# Altium schematic symbol library Schematic.SCHLIB: 75 symbols
Pins are listed as number, name and electrical type; pins without a type are passive.

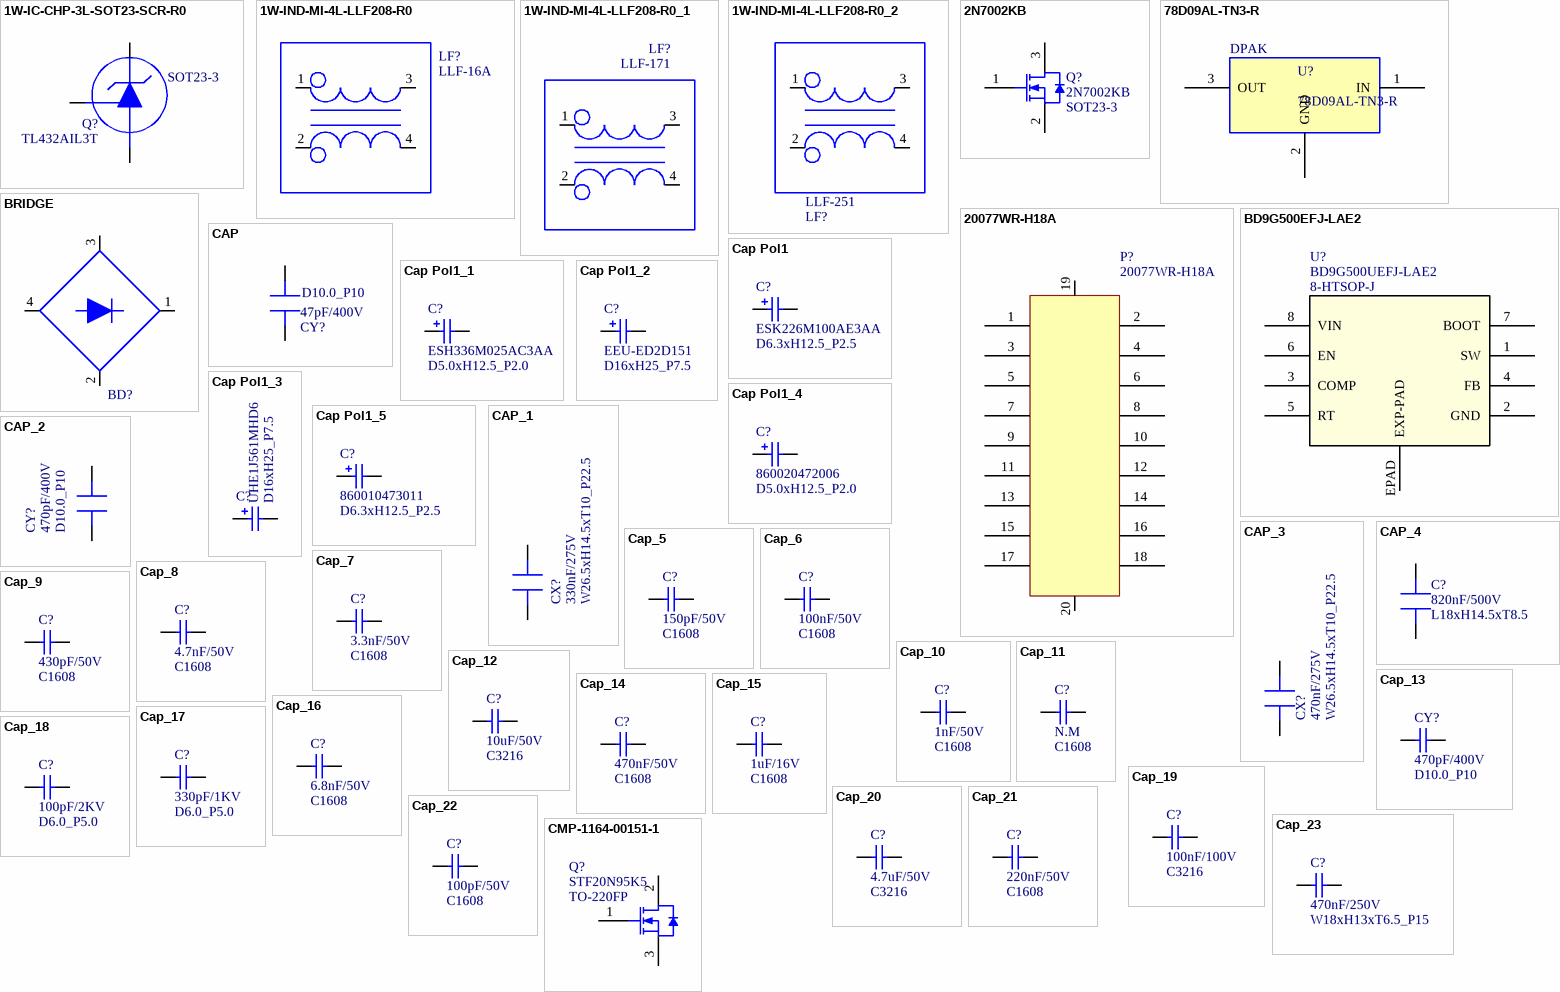
[diagram p0: symbols 1W-IC-CHP-3L-SOT23-SCR-R0 to CMP-1164-00151-1]

## 1W-IC-CHP-3L-SOT23-SCR-R0
designator Q?, comment TL432AIL3T  Package/Case: SOT23-3
IC VREF SHUNT ADJ 1% SOT23-3; Mount Type: SMD
footprint SOT-23_TR
pins: 1 R, 2 K, 3 A

## 1W-IND-MI-4L-LLF208-R0
designator LF?, comment LLF-16A
LINE FILTER; Package/Case: LLF-16A; Mount Type: DIP
footprint 1W-IND-MI-4L-LLF16-2TFF00159A
pins: 1, 2, 3, 4

## 1W-IND-MI-4L-LLF208-R0_1
designator LF?, comment LLF-171
LINE FILTER; Mount Type: DIP; Package/Case: LLF-171
footprint 1W-IND-MI-4L-LLF171-2TFF00188A
pins: 1, 2, 3, 4

## 1W-IND-MI-4L-LLF208-R0_2
designator LF?, comment LLF-251
LINE FILTER; Mount Type: DIP; Package/Case: LLF-251
footprint 1W-IND-MI-4L-LLF171-2TFF00188A
pins: 1, 2, 3, 4

## 2N7002KB
designator Q?  Package/Case: SOT23-3
N-CH MOSFET; Mounting Type: SMD
pins: 1 G, 2 S, 3 D

## 78D09AL-TN3-R
designator U?  Package/Case: DPAK
3-TERMINALS 1A POSITIVE VOLTAGE REGULATOR; Mounting Type: SMD
pins: 1 IN, 2 GND, 3 OUT

## 20077WR-H18A
designator P?
Wafer 18P; Package/Case: 20077WR-H18A; Mount Type: DIP
footprint 1W-CON-MI-18L-20077WR-2P
pins: 1, 2, 3, 4, 5, 6, 7, 8, 9, 10, 11, 12, 13, 14, 15, 16, 17, 18, 19, 20

## BD9G500EFJ-LAE2
designator U?, comment BD9G500UEFJ-LAE2  Package/Case: 8-HTSOP-J
7 V to 76 V Input, 5 A Integrated High–Side MOSFET, Single Buck DC/DC Converter; Mount Type: SMD
footprint SOIC8_BD9G500EFJ-LAE2_ROM
pins: 1 SW, 2 GND (power), 3 COMP, 4 FB, 5 RT, 6 EN, 7 BOOT, 8 VIN, EPAD EXP-PAD

## BRIDGE
designator BD?, comment TS6KL60  (value not drawn)
BRIDGE DIODE; Mount Type: DIP
footprint 2W-DIO-MI-4L-4_6X25X15-7_5P-BD
pins: 1, 2, 3, 4

## CAP
designator CY?, comment 47pF/400V  Package/Case: D10.0_P10
Y Capacitor; Mount Type: DIP
footprint CAP-RA-D12T3_6-P10-R0
pins: 1, 2

## Cap Pol1
designator C?, comment ESK226M100AE3AA  Package/Case: D6.3xH12.5_P2.5
Electrolytic Capacitor 22uF/100V; Mount Type: DIP
simulation model CAP (Capacitor)
signal-integrity model Cap Pol
footprint CAP-RA-D8H5-P2_5-R0
pins: 1, 2
1 alternate drawing of the same symbol

## Cap Pol1_1
designator C?, comment ESH336M025AC3AA  Package/Case: D5.0xH12.5_P2.0
Electrolytic Capacitor 33uF/25V; Mount Type: DIP
simulation model CAP (Capacitor)
signal-integrity model Cap Pol
footprint CAP-RA-D5.0H12_5-P2-R0CA
pins: 1, 2
1 alternate drawing of the same symbol

## Cap Pol1_2
designator C?, comment EEU-ED2D151  Package/Case: D16xH25_P7.5
Electrolytic Capacitor 150uF/200V; Mount Type: DIP
simulation model CAP (Capacitor)
signal-integrity model Cap Pol
footprint 1W-CAP-MI-2L-16DX25-7_5P-EL-F-R1212
pins: 1, 2
1 alternate drawing of the same symbol

## Cap Pol1_3
designator C?, comment UHE1J561MHD6  Package/Case: D16xH25_P7.5
Electrolytic Capacitor 560uF/63V; Mount Type: DIP
simulation model CAP (Capacitor)
signal-integrity model Cap Pol
footprint 1W-CAP-MI-2L-16DX36-7_5P-EL-F-R1212
footprint 1W-CAP-MI-2L-16DX25-7_5P-EL-F-R1212
pins: 1, 2
1 alternate drawing of the same symbol

## Cap Pol1_4
designator C?, comment 860020472006  Package/Case: D5.0xH12.5_P2.0
Electrolytic Capacitor 47uF/25V; Mount Type: DIP
simulation model CAP (Capacitor)
signal-integrity model Cap Pol
footprint CAP-RA-D5.0H12_5-P2-R0CA
pins: 1, 2
1 alternate drawing of the same symbol

## Cap Pol1_5
designator C?, comment 860010473011  Package/Case: D6.3xH12.5_P2.5
Electrolytic Capacitor 220uF/25V; Mount Type: DIP
simulation model CAP (Capacitor)
signal-integrity model Cap Pol
footprint CAP-RA-D8H5-P2_5-R0
pins: 1, 2
1 alternate drawing of the same symbol

## CAP_1
designator CX?, comment 330nF/275V  Package/Case: W26.5xH14.5xT10_P22.5
X Capacitor; Mount Type: DIP
footprint 1W-CAP-MI-2L-10X26X17-22.5P-FILM-R0
footprint CAP-MI-X26_5Y10-P22_5-R0
pins: 1, 2

## CAP_2
designator CY?, comment 470pF/400V  Package/Case: D10.0_P10
Y Capacitor; Mount Type: DIP
footprint CAP-RA-D12T3_6-P10-R0
pins: 1, 2

## CAP_3
designator CX?, comment 470nF/275V  Package/Case: W26.5xH14.5xT10_P22.5
X Capacitor; Mount Type: DIP
footprint 1W-CAP-MI-2L-10X26X17-22.5P-FILM-R0
footprint CAP-MI-X26_5Y10-P22_5-R0
pins: 1, 2

## CAP_4
designator C?, comment 820nF/500V  Package/Case: L18xH14.5xT8.5
Film Capacitor; Mount Type: DIP
footprint 1W-CAP-MI-2L-8_5X18X14_5-15P-FILM
pins: 1, 2

## Cap_5
designator C?, comment 150pF/50V  Package/Case: C1608
Chip MLCC; Mount Type: SMD
simulation model CAP (Capacitor)
signal-integrity model Cap
footprint CAP-CHP-1608-R0
pins: 1, 2

## Cap_6
designator C?, comment 100nF/50V  Package/Case: C1608
Chip MLCC; Mount Type: SMD
simulation model CAP (Capacitor)
signal-integrity model Cap
footprint CAP-CHP-1608-R0
pins: 1, 2

## Cap_7
designator C?, comment 3.3nF/50V  Package/Case: C1608
Chip MLCC; Mount Type: SMD
simulation model CAP (Capacitor)
signal-integrity model Cap
footprint CAP-CHP-1608-R0
pins: 1, 2

## Cap_8
designator C?, comment 4.7nF/50V  Package/Case: C1608
Chip MLCC; Mount Type: SMD
simulation model CAP (Capacitor)
signal-integrity model Cap
footprint CAP-CHP-1608-R0
pins: 1, 2

## Cap_9
designator C?, comment 430pF/50V  Package/Case: C1608
Chip MLCC; Mount Type: SMD
simulation model CAP (Capacitor)
signal-integrity model Cap
footprint CAP-CHP-1608-R0
pins: 1, 2

## Cap_10
designator C?, comment 1nF/50V  Package/Case: C1608
Chip MLCC; Mount Type: SMD
simulation model CAP (Capacitor)
signal-integrity model Cap
footprint CAP-CHP-1608-R0
pins: 1, 2

## Cap_11
designator C?, comment N.M  Package/Case: C1608
Chip MLCC; Mount Type: SMD
simulation model CAP (Capacitor)
signal-integrity model Cap
footprint CAP-CHP-1608-R0
pins: 1, 2

## Cap_12
designator C?, comment 10uF/50V  Package/Case: C3216
Chip MLCC; Mount Type: SMD
simulation model CAP (Capacitor)
signal-integrity model Cap
footprint CAP-CHP-3216-R0
pins: 1, 2

## Cap_13
designator CY?, comment 470pF/400V  Package/Case: D10.0_P10
Y Capacitor; Mount Type: DIP
simulation model CAP (Capacitor)
signal-integrity model Cap
footprint CAP-RA-D12T3_6-P10-R0
pins: 1, 2

## Cap_14
designator C?, comment 470nF/50V  Package/Case: C1608
Chip MLCC; Mount Type: SMD
simulation model CAP (Capacitor)
signal-integrity model Cap
footprint CAP-CHP-1608-R0
pins: 1, 2

## Cap_15
designator C?, comment 1uF/16V  Package/Case: C1608
Chip MLCC; Mount Type: SMD
simulation model CAP (Capacitor)
signal-integrity model Cap
footprint CAP-CHP-1608-R0
pins: 1, 2

## Cap_16
designator C?, comment 6.8nF/50V  Package/Case: C1608
Chip MLCC; Mount Type: SMD
simulation model CAP (Capacitor)
signal-integrity model Cap
footprint CAP-CHP-1608-R0
pins: 1, 2

## Cap_17
designator C?, comment 330pF/1KV  Package/Case: D6.0_P5.0
Ceramic Capacitor; Mount Type: DIP
simulation model CAP (Capacitor)
signal-integrity model Cap
footprint CAP-RA-D6_5T2-P5-R0
pins: 1, 2

## Cap_18
designator C?, comment 100pF/2KV  Package/Case: D6.0_P5.0
Ceramic Capacitor; Mount Type: DIP
simulation model CAP (Capacitor)
signal-integrity model Cap
footprint CAP-RA-D6_5T2-P5-R0
pins: 1, 2

## Cap_19
designator C?, comment 100nF/100V  Package/Case: C3216
Chip MLCC; Mount Type: SMD
simulation model CAP (Capacitor)
signal-integrity model Cap
footprint CAP-CHP-3216-R0
pins: 1, 2

## Cap_20
designator C?, comment 4.7uF/50V  Package/Case: C3216
Chip MLCC; Mount Type: SMD
simulation model CAP (Capacitor)
signal-integrity model Cap
footprint CAP-CHP-3216-R0
pins: 1, 2

## Cap_21
designator C?, comment 220nF/50V  Package/Case: C1608
Chip MLCC; Mount Type: SMD
simulation model CAP (Capacitor)
signal-integrity model Cap
footprint CAP-CHP-1608-R0
pins: 1, 2

## Cap_22
designator C?, comment 100pF/50V  Package/Case: C1608
Chip MLCC; Mount Type: SMD
simulation model CAP (Capacitor)
signal-integrity model Cap
footprint CAP-CHP-1608-R0
pins: 1, 2

## Cap_23
designator C?, comment 470nF/250V  Package/Case: W18xH13xT6.5_P15
Film Capacitor; Mount Type: DIP
footprint 1W-CAP-MI-2L-6_5X18X13-15P-FILM
pins: 1, 2

## CMP-1164-00151-1
designator Q?, comment STF20N95K5  Package/Case: TO-220FP
MOSFET N-CH 950V 17.5A TO220FP; Mount Type: DIP
footprint 1W-FET-TO220B2F8A
pins: 1 GATE, 2 DRAIN, 3 SOURCE

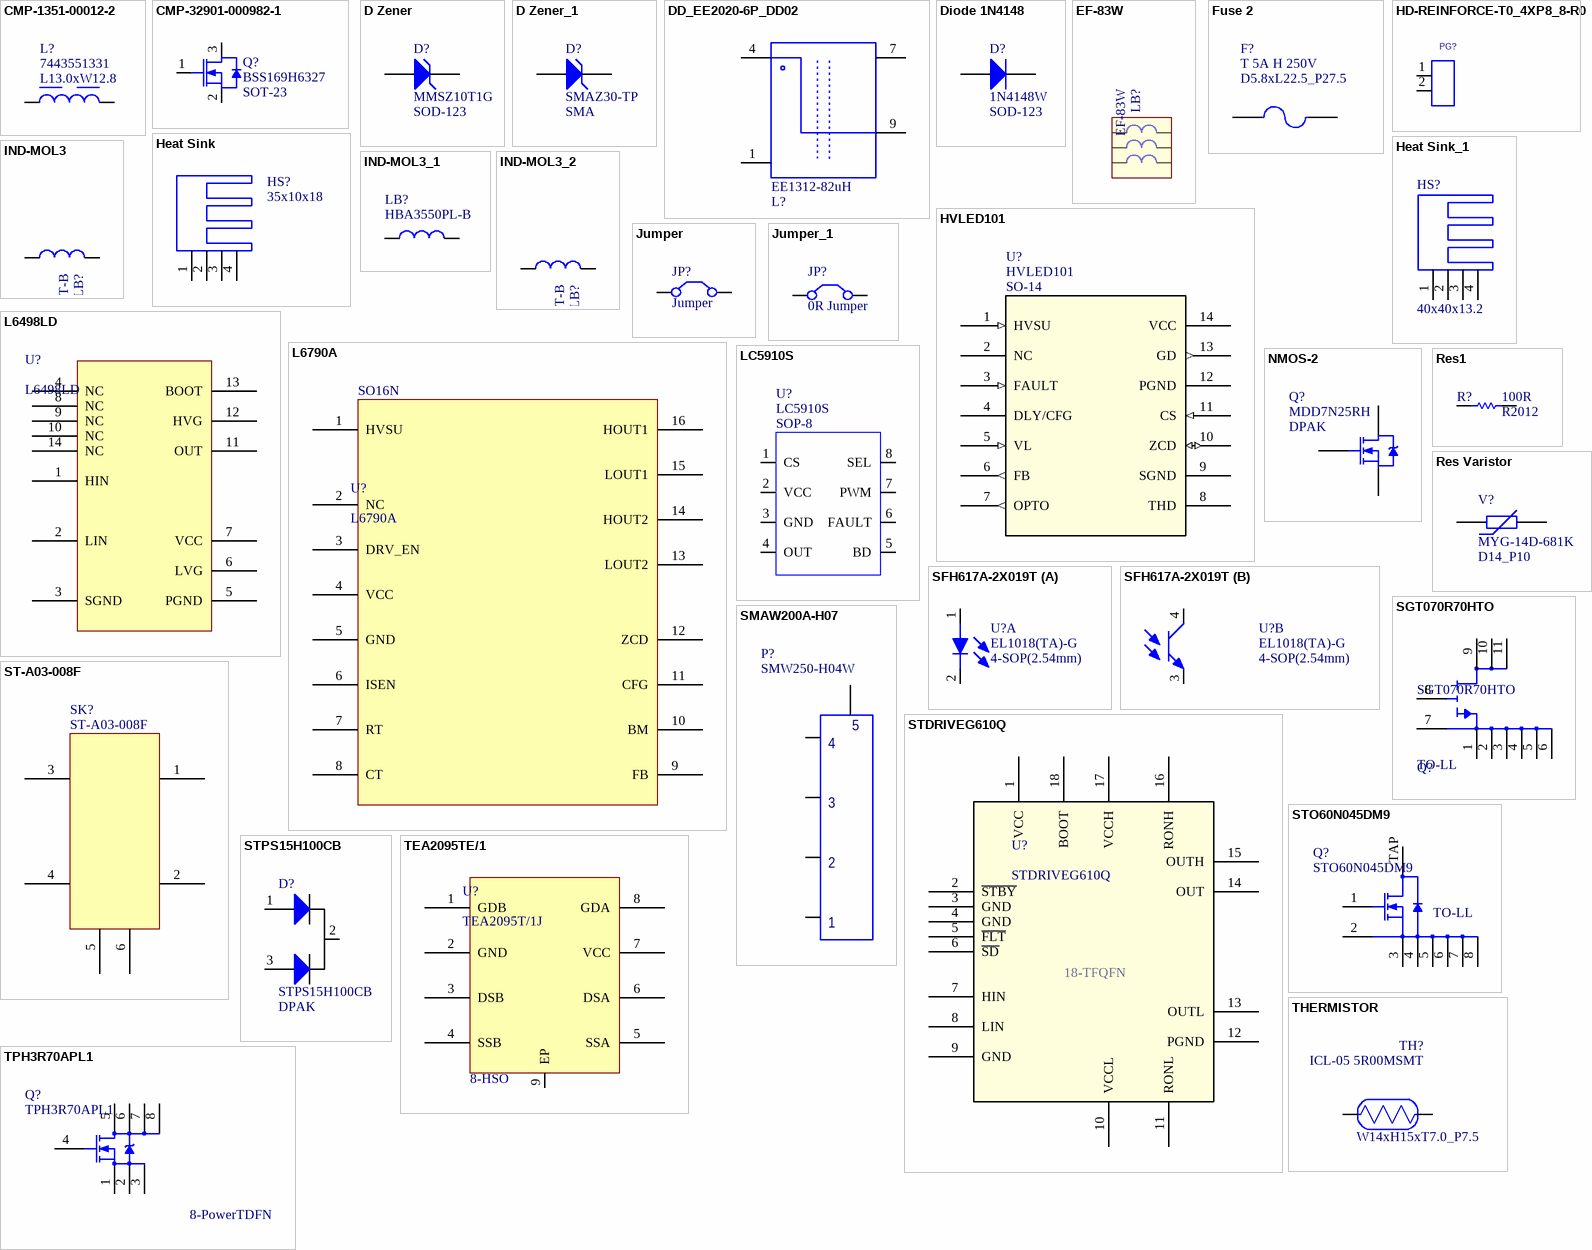
[diagram p1: symbols CMP-1351-00012-2 to TPH3R70APL1]

## CMP-1351-00012-2
designator L?, comment 7443551331  Package/Case: L13.0xW12.8
FIXED IND 33uH 5.5A 30.5MOHM SMD; Mount Type: SMD
footprint WE-HCI_1365 (SMT Flat Wire High Current Inductor, body 12.8x12.8mm)
pins: 1, 2

## CMP-32901-000982-1
designator Q?, comment BSS169H6327  Package/Case: SOT-23
MOSFET N-CH 100V 170MA SOT23-3; Mount Type: SMD
footprint SOT-23_TR
pins: 1 GATE, 2 SOURCE, 3 DRAIN

## D Zener
designator D?, comment MMSZ10T1G  Package/Case: SOD-123
DIODE ZENER 13V 500MW SOD123; Mount Type: SMD
simulation model ZENER (Diode)
signal-integrity model D Zener
footprint DIO-SOD123
pins: 1 A, 2 K

## D Zener_1
designator D?, comment SMAZ30-TP  Package/Case: SMA
DIODE ZENER 30V 1W DO214AC; Mount Type: SMD
simulation model ZENER (Diode)
signal-integrity model D Zener
footprint 1W-DIO-CHP-2L-SOD106-SMA
pins: 1 A, 2 K

## DD_EE2020-6P_DD02
designator L?, comment EE1312-82uH
Power Inductor; Package/Case: EE1312; Mount Type: DIP
footprint 1W-IND-MI-10L-EE1312-2MCT00110AAA
pins: 1 2, 4 1, 7, 9 3

## Diode 1N4148
designator D?, comment 1N4148W  Package/Case: SOD-123
DIODE STANDARD 75V 150MA SOD123F; Mount Type: SMD
simulation model 1N4148 (DIODE)
signal-integrity model 1N4148
footprint DIO-SOD123
pins: 1 A, 2 K

## EF-83W
designator LB?
pins: 1, 1, 1, 2, 2, 2

## Fuse 2
designator F?, comment T 5A H 250V  Package/Case: D5.8xL22.5_P27.5
Fuse; Mount Type: DIP
simulation model FUSE (Spice Subcircuit)
footprint 1W-FUS-MI-2L-5_5DX21_5-27_5P-0_8D
pins: 1, 2

## HD-REINFORCE-T0_4XP8_8-R0
designator PG?  (value not drawn)  (no BOM)
footprint 2W-CON-MI-2L-SCREWLESS-GND-PLATE-V3A
pins: 1, 2

## Heat Sink
designator HS?, comment 35x10x18
Heat Sink
footprint 2W-HS-MI-35X10X18-R1108AA
pins: 1, 2, 3, 4

## Heat Sink_1
designator HS?, comment 40x40x13.2
Heat Sink
footprint HS_50X20X13.2-22AAA
pins: 1, 2, 3, 4

## HVLED101
designator U?  Package/Case: SO-14
Flyback Controller; Mount Type: SMD
footprint SOP14_0016019_E_STM
pins: 1 HVSU (in), 2 NC, 3 FAULT (in), 4 DLY/CFG, 5 VL (in), 6 FB (out), 7 OPTO (out), 8 THD, 9 SGND (power), 10 ZCD (io), 11 CS (in), 12 PGND (power), 13 GD (out), 14 VCC (power)

## IND-MOL3
designator LB?, comment HBRS3550PT-B
Ferrite Bead; Package/Case: HBRS3550; Mount Type: DIP
footprint BD-AX-3550-P19_5-R0A
footprint BD-RA-3550-P5-R0
pins: 1, 2

## IND-MOL3_1
designator LB?, comment HBA3550PL-B
Ferrite Bead; Package/Case: HBA3550; Mount Type: DIP
footprint BD-AX-3550-P16-R0
footprint BD-RA-3550-P5-R0
pins: 1, 2

## IND-MOL3_2
designator LB?, comment HBRD3550PT-B
Ferrite Bead; Package/Case: HBRD3550PT-B; Mount Type: DIP
footprint BD-RA-3865-P5-R0
pins: 1, 2

## Jumper
designator JP?
Jumper Through Hole Lead; Mount Type: DIP; Package/Case: -
footprint JW-6_0-R0
footprint JW-15_0-R0
pins: 1 C1, 2 C2

## Jumper_1
designator JP?, comment 0R Jumper
Chip Resistor; Package/Case: R3216; Mount Type: SMD
footprint JP-CHP-3216-R0
pins: 1 C1, 2 C2

## L6498LD
designator U?
pins: 1 HIN, 2 LIN, 3 SGND, 4 NC, 5 PGND, 6 LVG, 7 VCC, 8 NC, 9 NC, 10 NC, 11 OUT, 12 HVG, 13 BOOT, 14 NC

## L6790A
designator U?  Package/Case: SO16N
LLC-PFC controller IC for insulated power factor corrector application; Mounting Type: SMD
pins: 1 HVSU, 2 NC, 3 DRV_EN, 4 VCC, 5 GND, 6 ISEN, 7 RT, 8 CT, 9 FB, 10 BM, 11 CFG, 12 ZCD, 13 LOUT2, 14 HOUT2, 15 LOUT1, 16 HOUT1

## LC5910S
designator U?  Package/Case: SOP-8
LED DRIVER IC FOR LED BACKLIGHTS; Mount Type: SMD
footprint 1W-IC-CHP-8L-SOP-1_27P-B3_9
pins: 1 CS, 2 VCC, 3 GND, 4 OUT, 5 BD, 6 FAULT, 7 PWM, 8 SEL

## NMOS-2
designator Q?, comment MDD7N25RH  Package/Case: DPAK
N-Channel MOSFET 250V, 6.2A, 0.55Ω; Mount Type: SMD
simulation model IRF1010 (Spice Subcircuit)
footprint 1W-IC-CHP-3L-DPAK
pins: 1 G, 2 D, 3 S

## Res1
designator R?, comment 100R  Package/Case: R2012
Chip Resistor; Mount Type: SMD
footprint RES-2012
pins: 1, 2

## Res Varistor
designator V?, comment MYG-14D-681K  Package/Case: D14_P10
Varistor (Voltage-Sensitive Resistor); Mount Type: DIP
footprint 1W-VA-MI-2L-16_5DX7_6X16_5-7_5P-0_5PA
pins: 1, 2

## SFH617A-2X019T
designator U?, comment EL1018(TA)-G  Package/Case: 4-SOP(2.54mm)
Photocoupler; Mount Type: SMD
footprint 1W-IC-CHP-4L-3_6X7_6-2_54P-L10_2-PC
part A pins: 1 A, 2 C
part B pins: 3 E, 4 C

## SGT070R70HTO
designator Q?  Package/Case: TO-LL
700 V, 53 mΩ typ., 26 A, e-mode PowerGaN transistor; ComponentLink1URL: http://www.nexperia.com/; ComponentLink2URL: https://assets.nexperia.com/documents/data-sheet/GAN080-650EBE.pdf; Mounting Type: SMD
pins: 1 S, 2 S, 3 S, 4 S, 5 S, 6 S, 7 KS, 8 G, 9 D, 10 D, 11 D

## SMAW200A-H07
designator P?, comment SMW250-H04W
ToLPB; Package/Case: SMW250-H04W; Mount Type: DIP
footprint 2W-CON-MI-4L-SMW250-H04W-2_5P
pins: 0, 1, 2, 3, 4
text: 5

## ST-A03-008F
designator SK?
AC Input Inlet; Package/Case: ST-A03-008F; Mount Type: DIP
footprint CON-MI-DAC-18D3S2_2_NEW
pins: 1, 2, 3, 4, 5, 6

## STDRIVEG610Q
designator U?  Package/Case: 18-TFQFN
High voltage and high-speed half-bridge gate driver for GaN power switches
pins: 1 VCC, 2 ~{STBY}, 3 GND, 4 GND, 5 ~{FLT}, 6 ~{SD}, 7 HIN, 8 LIN, 9 GND, 10 VCCL, 11 RONL, 12 PGND, 13 OUTL, 14 OUT, 15 OUTH, 16 RONH, 17 VCCH, 18 BOOT

## STO60N045DM9
designator Q?  Package/Case: TO-LL
N‑channel 600 V, 35 mΩ typ., 56 A MDmesh DM9 Power MOSFET in a TO‑LL package; Mount Type: SMD
pins: 1 G, 2 DS, 3 PS, 4 PS, 5 PS, 6 PS, 7 PS, 8 PS, TAP D

## STPS15H100CB
designator D?  Package/Case: DPAK
DIODE ARRAY Schottky 100V 7.5A DPAK; Mount type: SMD
footprint 1W-IC-CHP-3L-DPAK
pins: 1 A1, 2 K, 3 A2

## TEA2095TE/1
designator U?, comment TEA2095T/1J  Package/Case: 8-HSO
LLC SR CONTROLLER IC; Mounting Type: SMD
pins: 1 GDB, 2 GND, 3 DSB, 4 SSB, 5 SSA, 6 DSA, 7 VCC, 8 GDA, 9 EP

## THERMISTOR
designator TH?, comment ICL-05 5R00MSMT  Package/Case: W14xH15xT7.0_P7.5
NTC Power Thermistor; Mount Type: DIP
footprint 1W-TH-MI-14_0X8_0X14_0-7_5P-ICL
pins: 1, 2

## TPH3R70APL1
designator Q?  Package/Case: 8-PowerTDFN
N-Channel 100 V 90A (Tc) 210W (Tc) Surface Mount 8-SOP Advance (5x5.75); Mount Type: SMD
pins: 1 S, 2 S, 3 S, 4 G, 5 D, 6 D, 7 D, 8 D

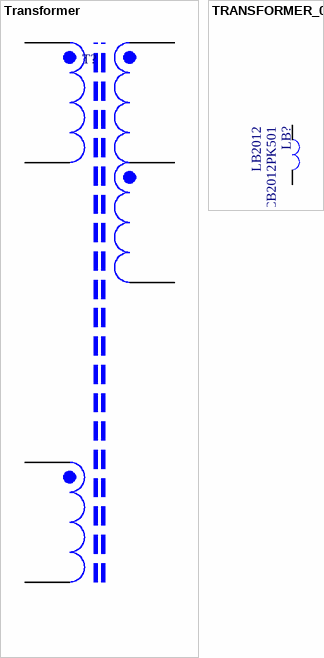
[diagram p2: symbols Transformer to TRANSFORMER_0]

## Transformer
designator T?
Transformer; Mount Type: DIP
pins: 4, 5, 6, 7, 8, 10, 12

## TRANSFORMER_0
designator LB?, comment CB2012PK501  Package/Case: LB2012
Chip Ferrite Bead; Mount Type: SMD
footprint BD-CHP-2012-R0
pins: 1, 2